# Altium schematic symbol library SCH - MCU - STM32 - ST MICROELECTRONICS STM32L072V8IX UFBGA100.SchLib: 1 symbol
Pins are listed as number, name and electrical type; pins without a type are passive.

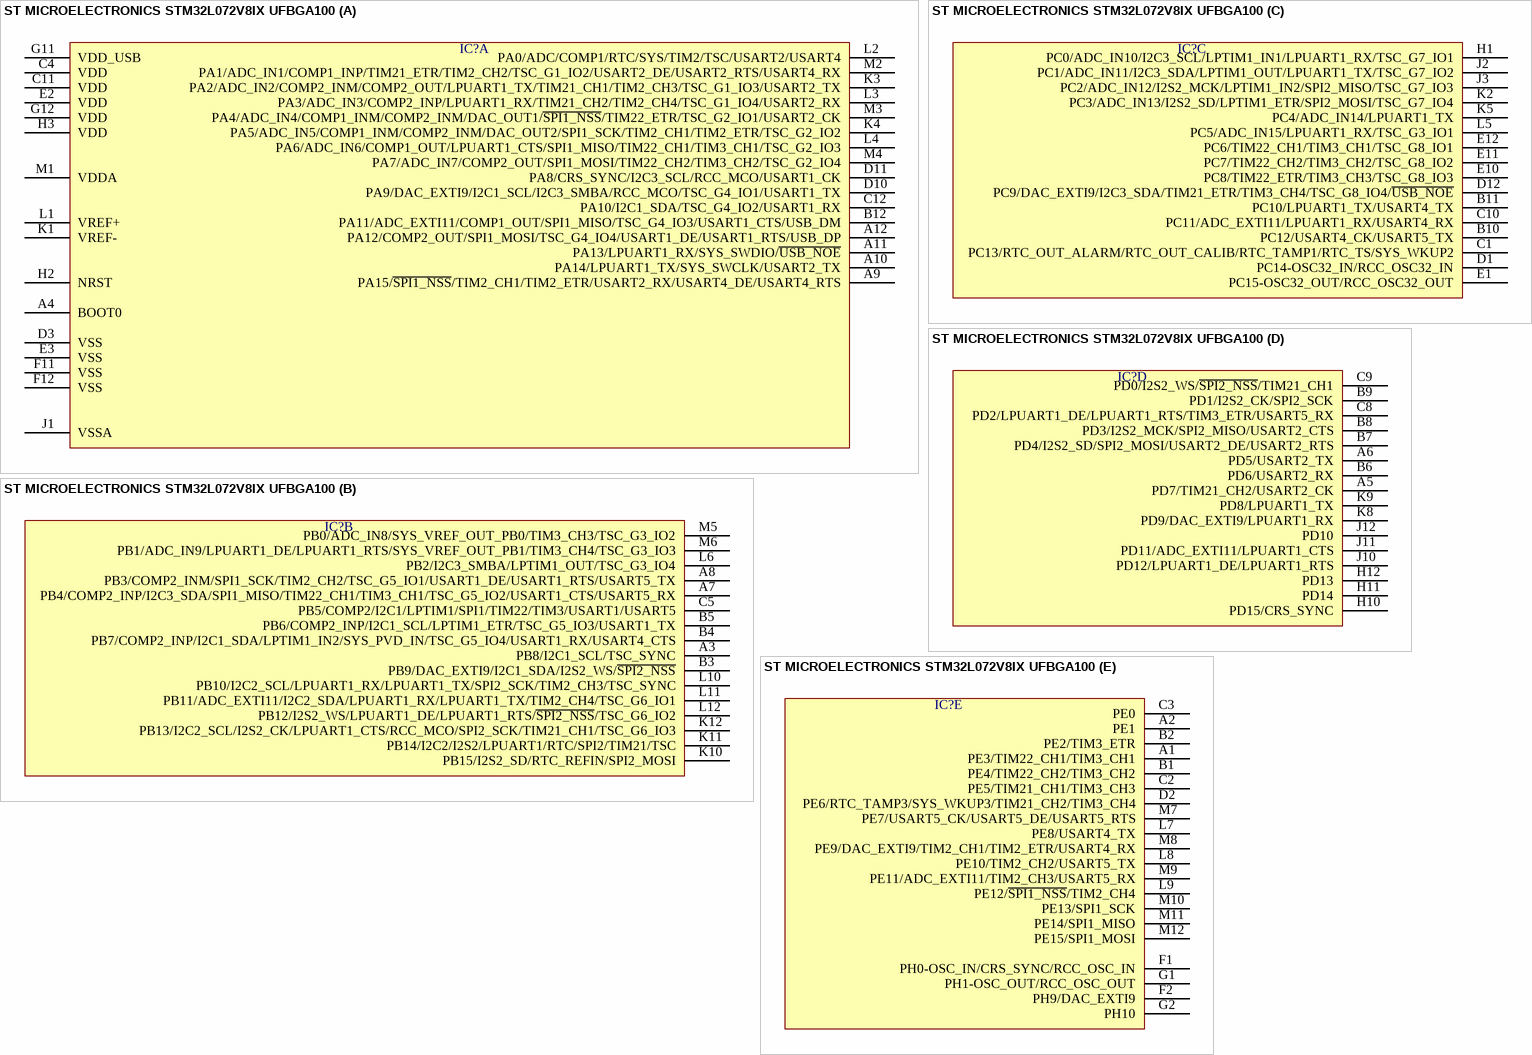
[diagram p0: symbol ST MICROELECTRONICS STM32L072V8IX UFBGA100]

## ST MICROELECTRONICS STM32L072V8IX UFBGA100
designator IC?  (value not drawn)
part A pins: A4 BOOT0, A9 PA15/~{SPI1_NSS}/TIM2_CH1/TIM2_ETR/USART2_RX/USART4_DE/USART4_RTS, A10 PA14/LPUART1_TX/SYS_SWCLK/USART2_TX, A11 PA13/LPUART1_RX/SYS_SWDIO/~{USB_NOE}, A12 PA12/COMP2_OUT/SPI1_MOSI/TSC_G4_IO4/USART1_DE/USART1_RTS/USB_DP, B12 PA11/ADC_EXTI11/COMP1_OUT/SPI1_MISO/TSC_G4_IO3/USART1_CTS/USB_DM, C4 VDD, C11 VDD, C12 PA10/I2C1_SDA/TSC_G4_IO2/USART1_RX, D3 VSS, D10 PA9/DAC_EXTI9/I2C1_SCL/I2C3_SMBA/RCC_MCO/TSC_G4_IO1/USART1_TX, D11 PA8/CRS_SYNC/I2C3_SCL/RCC_MCO/USART1_CK, E2 VDD, E3 VSS, F11 VSS, F12 VSS, G11 VDD_USB, G12 VDD, H2 NRST, H3 VDD, J1 VSSA, K1 VREF-, K3 PA2/ADC_IN2/COMP2_INM/COMP2_OUT/LPUART1_TX/TIM21_CH1/TIM2_CH3/TSC_G1_IO3/USART2_TX, K4 PA5/ADC_IN5/COMP1_INM/COMP2_INM/DAC_OUT2/SPI1_SCK/TIM2_CH1/TIM2_ETR/TSC_G2_IO2, L1 VREF+, L2 PA0/ADC/COMP1/RTC/SYS/TIM2/TSC/USART2/USART4, L3 PA3/ADC_IN3/COMP2_INP/LPUART1_RX/TIM21_CH2/TIM2_CH4/TSC_G1_IO4/USART2_RX, L4 PA6/ADC_IN6/COMP1_OUT/LPUART1_CTS/SPI1_MISO/TIM22_CH1/TIM3_CH1/TSC_G2_IO3, M1 VDDA, M2 PA1/ADC_IN1/COMP1_INP/TIM21_ETR/TIM2_CH2/TSC_G1_IO2/USART2_DE/USART2_RTS/USART4_RX, M3 PA4/ADC_IN4/COMP1_INM/COMP2_INM/DAC_OUT1/~{SPI1_NSS}/TIM22_ETR/TSC_G2_IO1/USART2_CK, M4 PA7/ADC_IN7/COMP2_OUT/SPI1_MOSI/TIM22_CH2/TIM3_CH2/TSC_G2_IO4
part B pins: A3 PB8/I2C1_SCL/TSC_SYNC, A7 PB4/COMP2_INP/I2C3_SDA/SPI1_MISO/TIM22_CH1/TIM3_CH1/TSC_G5_IO2/USART1_CTS/USART5_RX, A8 PB3/COMP2_INM/SPI1_SCK/TIM2_CH2/TSC_G5_IO1/USART1_DE/USART1_RTS/USART5_TX, B3 PB9/DAC_EXTI9/I2C1_SDA/I2S2_WS/~{SPI2_NSS}, B4 PB7/COMP2_INP/I2C1_SDA/LPTIM1_IN2/SYS_PVD_IN/TSC_G5_IO4/USART1_RX/USART4_CTS, B5 PB6/COMP2_INP/I2C1_SCL/LPTIM1_ETR/TSC_G5_IO3/USART1_TX, C5 PB5/COMP2/I2C1/LPTIM1/SPI1/TIM22/TIM3/USART1/USART5, K10 PB15/I2S2_SD/RTC_REFIN/SPI2_MOSI, K11 PB14/I2C2/I2S2/LPUART1/RTC/SPI2/TIM21/TSC, K12 PB13/I2C2_SCL/I2S2_CK/LPUART1_CTS/RCC_MCO/SPI2_SCK/TIM21_CH1/TSC_G6_IO3, L6 PB2/I2C3_SMBA/LPTIM1_OUT/TSC_G3_IO4, L10 PB10/I2C2_SCL/LPUART1_RX/LPUART1_TX/SPI2_SCK/TIM2_CH3/TSC_SYNC, L11 PB11/ADC_EXTI11/I2C2_SDA/LPUART1_RX/LPUART1_TX/TIM2_CH4/TSC_G6_IO1, L12 PB12/I2S2_WS/LPUART1_DE/LPUART1_RTS/~{SPI2_NSS}/TSC_G6_IO2, M5 PB0/ADC_IN8/SYS_VREF_OUT_PB0/TIM3_CH3/TSC_G3_IO2, M6 PB1/ADC_IN9/LPUART1_DE/LPUART1_RTS/SYS_VREF_OUT_PB1/TIM3_CH4/TSC_G3_IO3
part C pins: B10 PC12/USART4_CK/USART5_TX, B11 PC10/LPUART1_TX/USART4_TX, C1 PC13/RTC_OUT_ALARM/RTC_OUT_CALIB/RTC_TAMP1/RTC_TS/SYS_WKUP2, C10 PC11/ADC_EXTI11/LPUART1_RX/USART4_RX, D1 PC14-OSC32_IN/RCC_OSC32_IN, D12 PC9/DAC_EXTI9/I2C3_SDA/TIM21_ETR/TIM3_CH4/TSC_G8_IO4/~{USB_NOE}, E1 PC15-OSC32_OUT/RCC_OSC32_OUT, E10 PC8/TIM22_ETR/TIM3_CH3/TSC_G8_IO3, E11 PC7/TIM22_CH2/TIM3_CH2/TSC_G8_IO2, E12 PC6/TIM22_CH1/TIM3_CH1/TSC_G8_IO1, H1 PC0/ADC_IN10/I2C3_SCL/LPTIM1_IN1/LPUART1_RX/TSC_G7_IO1, J2 PC1/ADC_IN11/I2C3_SDA/LPTIM1_OUT/LPUART1_TX/TSC_G7_IO2, J3 PC2/ADC_IN12/I2S2_MCK/LPTIM1_IN2/SPI2_MISO/TSC_G7_IO3, K2 PC3/ADC_IN13/I2S2_SD/LPTIM1_ETR/SPI2_MOSI/TSC_G7_IO4, K5 PC4/ADC_IN14/LPUART1_TX, L5 PC5/ADC_IN15/LPUART1_RX/TSC_G3_IO1
part D pins: A5 PD7/TIM21_CH2/USART2_CK, A6 PD5/USART2_TX, B6 PD6/USART2_RX, B7 PD4/I2S2_SD/SPI2_MOSI/USART2_DE/USART2_RTS, B8 PD3/I2S2_MCK/SPI2_MISO/USART2_CTS, B9 PD1/I2S2_CK/SPI2_SCK, C8 PD2/LPUART1_DE/LPUART1_RTS/TIM3_ETR/USART5_RX, C9 PD0/I2S2_WS/~{SPI2_NSS}/TIM21_CH1, H10 PD15/CRS_SYNC, H11 PD14, H12 PD13, J10 PD12/LPUART1_DE/LPUART1_RTS, J11 PD11/ADC_EXTI11/LPUART1_CTS, J12 PD10, K8 PD9/DAC_EXTI9/LPUART1_RX, K9 PD8/LPUART1_TX
part E pins: A1 PE3/TIM22_CH1/TIM3_CH1, A2 PE1, B1 PE4/TIM22_CH2/TIM3_CH2, B2 PE2/TIM3_ETR, C2 PE5/TIM21_CH1/TIM3_CH3, C3 PE0, D2 PE6/RTC_TAMP3/SYS_WKUP3/TIM21_CH2/TIM3_CH4, F1 PH0-OSC_IN/CRS_SYNC/RCC_OSC_IN, F2 PH9/DAC_EXTI9, G1 PH1-OSC_OUT/RCC_OSC_OUT, G2 PH10, L7 PE8/USART4_TX, L8 PE10/TIM2_CH2/USART5_TX, L9 PE12/~{SPI1_NSS}/TIM2_CH4, M7 PE7/USART5_CK/USART5_DE/USART5_RTS, M8 PE9/DAC_EXTI9/TIM2_CH1/TIM2_ETR/USART4_RX, M9 PE11/ADC_EXTI11/TIM2_CH3/USART5_RX, M10 PE13/SPI1_SCK, M11 PE14/SPI1_MISO, M12 PE15/SPI1_MOSI